# EAGLE library part EC2-12SNU (library relay)
RELAY GEN PURPOSE DPDT 2A 12V LATCHING
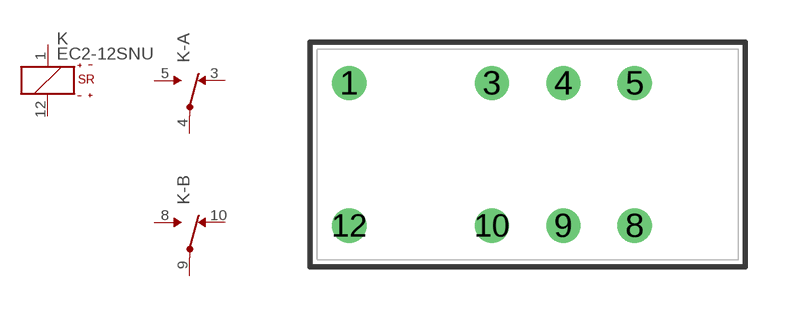
[diagram p61: symbol with the pads of EC2-12SNU; footprint EC2-12SNU]

Designator prefix K; gates -A=U -B=U C=K+-S-+R

## EC2-12SNU  [EC2-12SNU]
1  C:+  pas
3  -A:NC  pas
4  -A:COM  pas
5  -A:NO  pas
8  -B:NO  pas
9  -B:COM  pas
10  -B:NC  pas
12  C:-  pas

## Footprint EC2-12SNU (pad centres in mm)
drill 0.711: 1 -6.35,2.54; 3 -1.27,2.54; 4 1.27,2.54; 5 3.81,2.54; 8 3.81,-2.54; 9 1.27,-2.54; 10 -1.27,-2.54; 12 -6.35,-2.54